# Altium schematic symbol library Dialight.schlib: 1 symbol
Pins are listed as number, name and electrical type; pins without a type are passive.

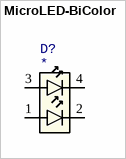
[diagram p0: symbol MicroLED-BiColor]

## MicroLED-BiColor
designator D?
LED BiColor SMT; Manufacturer 1: Dialight; Manufacturer Part Number 1: *; Value: *
footprint D0606N (LED, BiColor, SMD, 0606 / 1616)
pins: 1, 2, 3, 4